# EAGLE library part SN75HVD12DR (library components)
3.3-V RS-485 TRANSCEIVERS
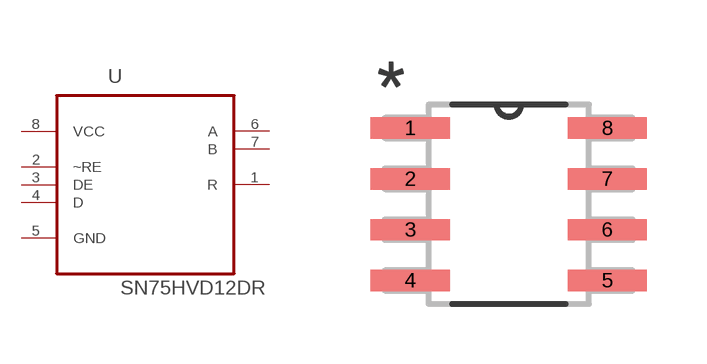
[diagram p16: symbol with the pads of SOIC127P600X175-8N; footprint SOIC127P600X175-8N]

Designator prefix U

## SN75HVD12DR (MPN: SN75HVD12DR; OC_FARNELL: 1470461; OC_NEWARK: 76C5174; PACKAGE: SOIC-8; SUPPLIER: Texas Instruments)  [SOIC127P600X175-8N]
1  R  out
2  ~RE  in
3  DE  in
4  D  in
5  GND  pas
6  A  out
7  B  out
8  VCC  pwr

## Footprint SOIC127P600X175-8N (pad centres in mm)
smd 1.981 x 0.533: 1 -2.464,1.905; 2 -2.464,0.635; 3 -2.464,-0.635; 4 -2.464,-1.905; 5 2.464,-1.905; 6 2.464,-0.635; 7 2.464,0.635; 8 2.464,1.905